# Altium schematic symbol library 1760510000.SchLib: 2 symbols
Pins are listed as number, name and electrical type; pins without a type are passive.

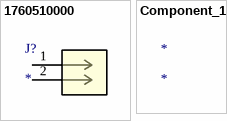
[diagram p0: symbols 1760510000 to Component_1]

## 1760510000
designator J?
No Description Available; Mfr_Name: Weidmuller; RefDes: RefDes; Type: Type
footprint CONN2_1760510000_WED
pins: 1, 2

## Component_1
designator *